# Altium footprint library PCB - CONNECTOR - MOLEX - MOLEX 0533980871.PcbLib: 1 footprints
Each footprint in its own frame and in the unit in brackets; x right, y up, seen from the top. Pads: shape width x height; smd on the part's side, far side on the other; paste and mask are expansions set on the pad; w line width, h text height; cw(c..) or ccw(c..) is an arc to the next point about the centre after c.
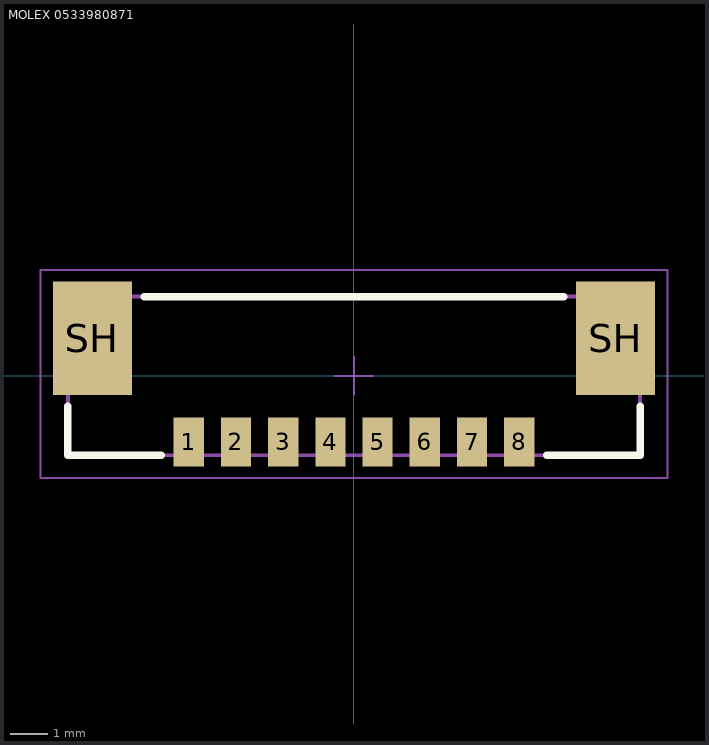
[diagram p0: the footprint, top view; thin cyan lines are the x and y axes]

## MOLEX 0533980871 [mm] "Connector Header Surface Mount 8 position, 1.25mm Pitch, 15.15x4.2 mm Body"
height 4.7
pads (10):
  rect 0.8x1.3 smd: 1(-4.375,-1.75) 2(-3.125,-1.75) 3(-1.875,-1.75) 4(-0.625,-1.75) 5(0.625,-1.75) 6(1.875,-1.75) 7(3.125,-1.75) 8(4.375,-1.75)
  rect 2.1x3 smd: SH(-6.925,1) SH(6.925,1)
Top Overlay:
  lines w0.2: -7.575,-0.8 -7.575,-2.1 -5.1,-2.1 ; -5.55,2.1 0,2.1 5.55,2.1 ; 5.1,-2.1 7.575,-2.1 7.575,-0.8
Mechanical 13:
  lines w0.1: -7.575,-2.1 7.575,-2.1 7.575,2.1 -7.575,2.1 -7.575,-2.1
Mechanical 15 (Mech15):
  lines w0.05: -0.5,0 0,0 ; 0,-0.5 0,0 ; 0,0.5 0,0 ; 0.5,0 0,0 ; -8.3,-2.7 -8.3,2.8 8.3,2.8 8.3,-2.7 -8.3,-2.7
3D body: height 4.7, standoff -0.05, extent -7.575,-2.1 7.575,2.1